# Altium footprint library WR-TBL_Pluggable Connector_5.00mm.PcbLib: 148 footprints (part 4 of 10)
Each footprint in its own frame and in the unit in brackets; x right, y up, seen from the top. Pads: shape width x height; smd on the part's side, far side on the other; paste and mask are expansions set on the pad; w line width, h text height; cw(c..) or ccw(c..) is an arc to the next point about the centre after c.
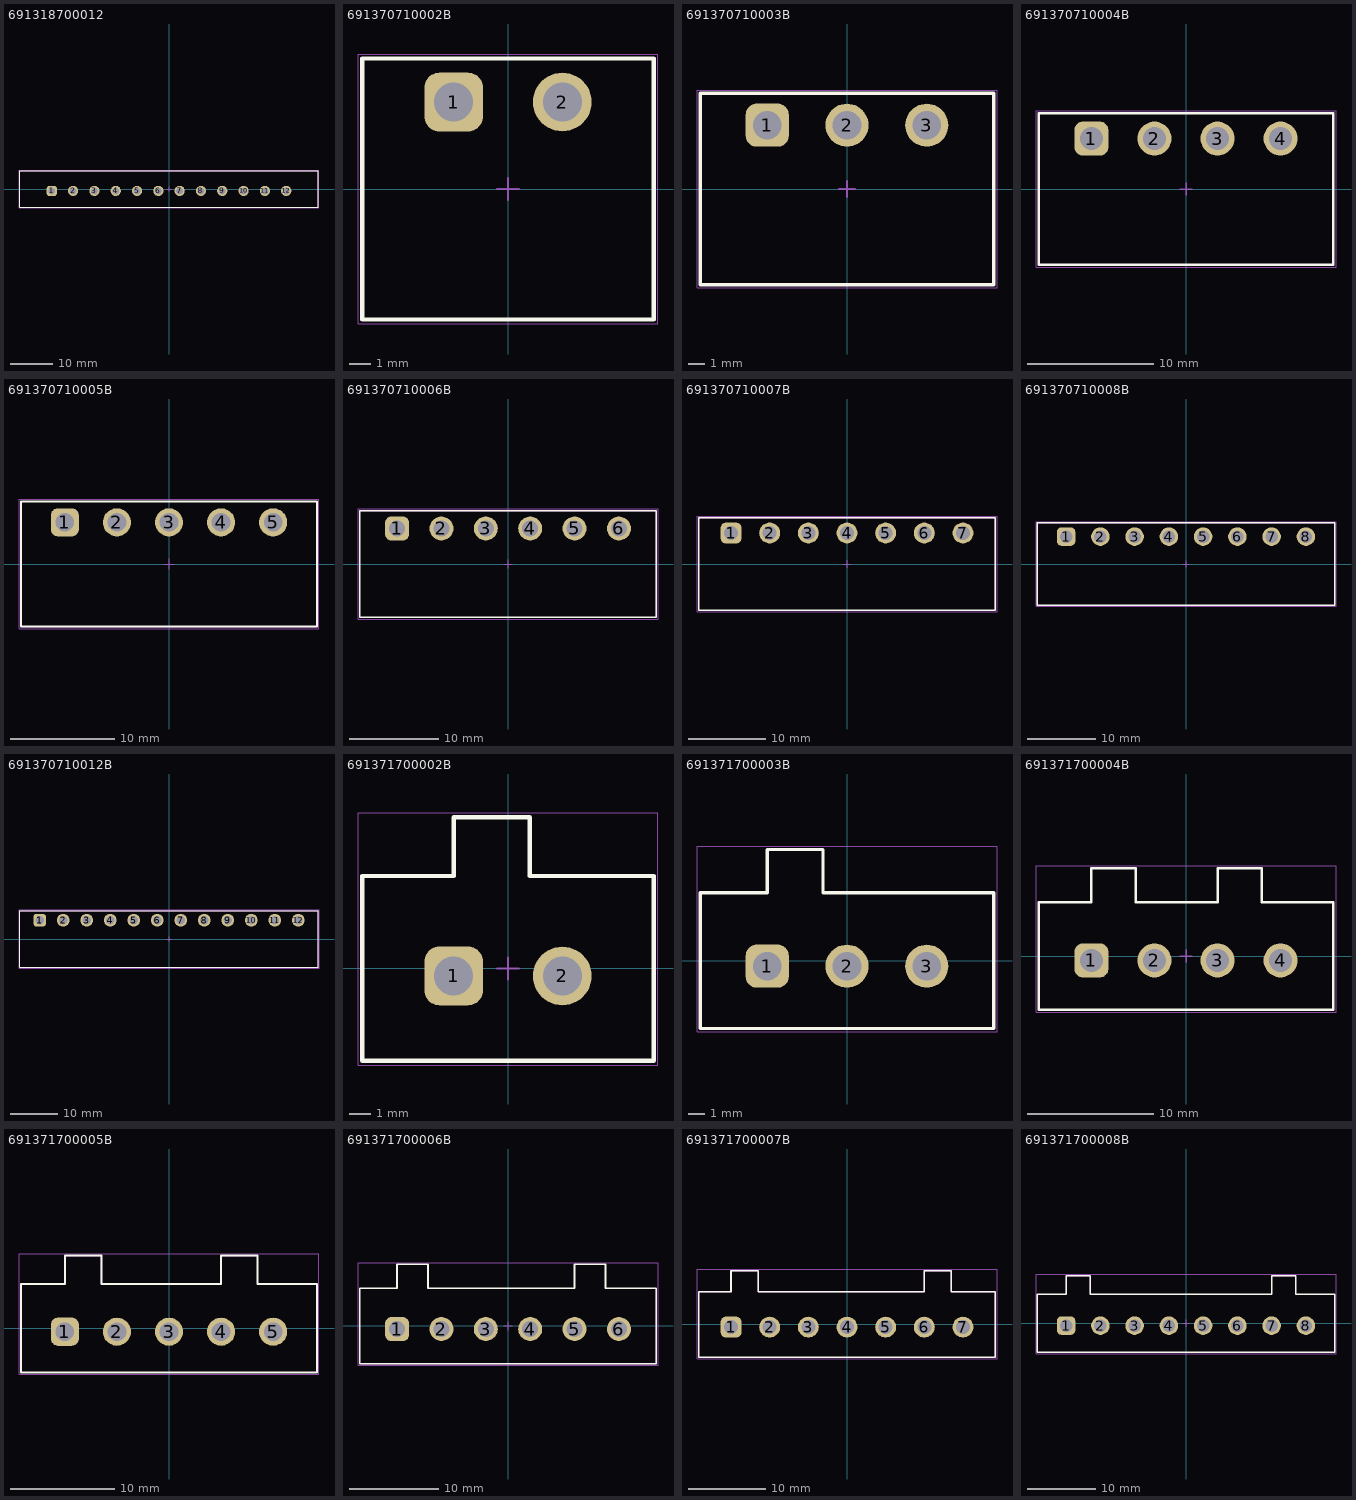
[diagram p3: the footprints below, top view; thin cyan lines are the x and y axes]

## 691318700012 [mm] "5.00mm - Closed Vertical PCB Header with Flanges - 12p"
height 12
pads (12):
  rrect50% 2.4x2.4 hole 1.6: 1(-27.5,-0.45)
  round 2.4 hole 1.6: 2(-22.5,-0.45) 3(-17.5,-0.45) 4(-12.5,-0.45) 5(-7.5,-0.45) 6(-2.5,-0.45) 7(2.5,-0.45) 8(7.5,-0.45) 9(12.5,-0.45) 10(17.5,-0.45) 11(22.5,-0.45) 12(27.5,-0.45)
Top Overlay:
  lines w0.2: -35,-4.25 35,-4.25 35,4.25 -35,4.25 -35,-4.25
Top Assembly:
  lines w0.1: -35,-4.25 -35,4.25 35,4.25 35,-4.25 -35,-4.25
Top Designator:
  text ".Designator" at -3.647,-0.357 h1
Top 3D Body:
  lines w0.1: -35,-4.25 35,-4.25 35,4.25 -35,4.25 -35,-4.25
Top Courtyard:
  lines w0.05: -35.2,-4.45 -35.2,4.45 35.2,4.45 35.2,-4.45 -35.2,-4.45
Top Component Center:
  lines w0.1: -0.5,0 0.5,0 ; 0,-0.5 0,0.5
3D body "691318700012.stp": height 12.1, standoff -3.9, extent -35,-4.25 35,4.25

## 691370710002B [mm] "5,00mm - PCB Horizontal with strong retention force between male and female housing - grey - 02p"
height 11.5
pads (2):
  rrect50% 2.7x2.7 hole 1.8: 1(-2.5,4)
  round 2.7 hole 1.8: 2(2.5,4)
Top Overlay:
  lines w0.2: -6.7,-6 -6.7,6 6.7,6 6.7,-6 -6.7,-6
Top Assembly:
  lines w0.1: -6.7,-6 6.7,-6 6.7,6 -6.7,6 -6.7,-6
Top Designator:
  text ".Designator" at -3.647,-0.357 h1
Top 3D Body:
  lines w0.1: -6.7,-6 -6.7,6 6.7,6 6.7,-6 -6.7,-6
Top Courtyard:
  lines w0.05: -6.9,-6.2 6.9,-6.2 6.9,6.2 -6.9,6.2 -6.9,-6.2
Top Component Center:
  lines w0.1: -0.5,0 0.5,0 ; 0,-0.5 0,0.5
3D body "691370710002B.stp": height 11.63, standoff -3.47, extent -6.7,-6 6.7,6

## 691370710003B [mm] "5,00mm - PCB Horizontal with strong retention force between male and female housing - grey - 03p"
height 11.5
pads (3):
  rrect50% 2.7x2.7 hole 1.8: 1(-5,4)
  round 2.7 hole 1.8: 2(0,4) 3(5,4)
Top Overlay:
  lines w0.2: -9.2,-6 9.2,-6 9.2,6 -9.2,6 -9.2,-6
Top Assembly:
  lines w0.1: -9.2,-6 -9.2,6 9.2,6 9.2,-6 -9.2,-6
Top Designator:
  text ".Designator" at -3.647,-0.357 h1
Top 3D Body:
  lines w0.1: -9.2,-6 9.2,-6 9.2,6 -9.2,6 -9.2,-6
Top Courtyard:
  lines w0.05: -9.4,-6.2 -9.4,6.2 9.4,6.2 9.4,-6.2 -9.4,-6.2
Top Component Center:
  lines w0.1: -0.5,0 0.5,0 ; 0,-0.5 0,0.5
3D body "691370710003B.stp": height 11.63, standoff -3.47, extent -9.2,-6 9.2,6

## 691370710004B [mm] "5,00mm - PCB Horizontal with strong retention force between male and female housing - grey - 04p"
height 11.5
pads (4):
  rrect50% 2.7x2.7 hole 1.8: 1(-7.5,4)
  round 2.7 hole 1.8: 2(-2.5,4) 3(2.5,4) 4(7.5,4)
Top Overlay:
  lines w0.2: -11.7,-6 -11.7,6 11.7,6 11.7,-6 -11.7,-6
Top Assembly:
  lines w0.1: -11.7,-6 11.7,-6 11.7,6 -11.7,6 -11.7,-6
Top Designator:
  text ".Designator" at -3.647,-0.357 h1
Top 3D Body:
  lines w0.1: -11.7,-6 -11.7,6 11.7,6 11.7,-6 -11.7,-6
Top Courtyard:
  lines w0.05: -11.9,-6.2 11.9,-6.2 11.9,6.2 -11.9,6.2 -11.9,-6.2
Top Component Center:
  lines w0.1: -0.5,0 0.5,0 ; 0,-0.5 0,0.5
3D body "691370710004B.stp": height 11.63, standoff -3.47, extent -11.7,-6 11.7,6

## 691370710005B [mm] "5,00mm - PCB Horizontal with strong retention force between male and female housing - grey - 05p"
height 11.5
pads (5):
  rrect50% 2.7x2.7 hole 1.8: 1(-10,4)
  round 2.7 hole 1.8: 2(-5,4) 3(0,4) 4(5,4) 5(10,4)
Top Overlay:
  lines w0.2: -14.2,-6 14.2,-6 14.2,6 -14.2,6 -14.2,-6
Top Assembly:
  lines w0.1: -14.2,-6 -14.2,6 14.2,6 14.2,-6 -14.2,-6
Top Designator:
  text ".Designator" at -3.647,-0.357 h1
Top 3D Body:
  lines w0.1: -14.2,-6 14.2,-6 14.2,6 -14.2,6 -14.2,-6
Top Courtyard:
  lines w0.05: -14.4,-6.2 -14.4,6.2 14.4,6.2 14.4,-6.2 -14.4,-6.2
Top Component Center:
  lines w0.1: -0.5,0 0.5,0 ; 0,-0.5 0,0.5
3D body "691370710005B.stp": height 11.63, standoff -3.47, extent -14.2,-6 14.2,6

## 691370710006B [mm] "5,00mm - PCB Horizontal with strong retention force between male and female housing - grey - 06p"
height 11.5
pads (6):
  rrect50% 2.7x2.7 hole 1.8: 1(-12.5,4)
  round 2.7 hole 1.8: 2(-7.5,4) 3(-2.5,4) 4(2.5,4) 5(7.5,4) 6(12.5,4)
Top Overlay:
  lines w0.2: -16.7,-6 16.7,-6 16.7,6 -16.7,6 -16.7,-6
Top Assembly:
  lines w0.1: -16.7,-6 -16.7,6 16.7,6 16.7,-6 -16.7,-6
Top Designator:
  text ".Designator" at -3.647,-0.357 h1
Top 3D Body:
  lines w0.1: -16.7,-6 16.7,-6 16.7,6 -16.7,6 -16.7,-6
Top Courtyard:
  lines w0.05: -16.9,-6.2 -16.9,6.2 16.9,6.2 16.9,-6.2 -16.9,-6.2
Top Component Center:
  lines w0.1: -0.5,0 0.5,0 ; 0,-0.5 0,0.5
3D body "691370710006B.stp": height 11.63, standoff -3.47, extent -16.7,-6 16.7,6

## 691370710007B [mm] "5,00mm - PCB Horizontal with strong retention force between male and female housing - grey - 07p"
height 11.5
pads (7):
  rrect50% 2.7x2.7 hole 1.8: 1(-15,4)
  round 2.7 hole 1.8: 2(-10,4) 3(-5,4) 4(0,4) 5(5,4) 6(10,4) 7(15,4)
Top Overlay:
  lines w0.2: -19.2,-6 -19.2,6 19.2,6 19.2,-6 -19.2,-6
Top Assembly:
  lines w0.1: -19.2,-6 19.2,-6 19.2,6 -19.2,6 -19.2,-6
Top Designator:
  text ".Designator" at -3.647,-0.357 h1
Top 3D Body:
  lines w0.1: -19.2,-6 -19.2,6 19.2,6 19.2,-6 -19.2,-6
Top Courtyard:
  lines w0.05: -19.4,-6.2 19.4,-6.2 19.4,6.2 -19.4,6.2 -19.4,-6.2
Top Component Center:
  lines w0.1: -0.5,0 0.5,0 ; 0,-0.5 0,0.5
3D body "691370710007B.stp": height 11.63, standoff -3.47, extent -19.2,-6 19.2,6

## 691370710008B [mm] "5,00mm - PCB Horizontal with strong retention force between male and female housing - grey - 08p"
height 11.5
pads (8):
  rrect50% 2.7x2.7 hole 1.8: 1(-17.5,4)
  round 2.7 hole 1.8: 2(-12.5,4) 3(-7.5,4) 4(-2.5,4) 5(2.5,4) 6(7.5,4) 7(12.5,4) 8(17.5,4)
Top Overlay:
  lines w0.2: -21.7,-6 21.7,-6 21.7,6 -21.7,6 -21.7,-6
Top Assembly:
  lines w0.1: -21.7,-6 -21.7,6 21.7,6 21.7,-6 -21.7,-6
Top Designator:
  text ".Designator" at -3.647,-0.357 h1
Top 3D Body:
  lines w0.1: -21.7,-6 21.7,-6 21.7,6 -21.7,6 -21.7,-6
Top Courtyard:
  lines w0.05: -21.9,-6.2 -21.9,6.2 21.9,6.2 21.9,-6.2 -21.9,-6.2
Top Component Center:
  lines w0.1: -0.5,0 0.5,0 ; 0,-0.5 0,0.5
3D body "691370710008B.stp": height 11.63, standoff -3.47, extent -21.7,-6 21.7,6

## 691370710012B [mm] "5,00mm - PCB Horizontal with strong retention force between male and female housing - grey - 12p"
height 11.5
pads (12):
  rrect50% 2.7x2.7 hole 1.8: 1(-27.5,4)
  round 2.7 hole 1.8: 2(-22.5,4) 3(-17.5,4) 4(-12.5,4) 5(-7.5,4) 6(-2.5,4) 7(2.5,4) 8(7.5,4) 9(12.5,4) 10(17.5,4) 11(22.5,4) 12(27.5,4)
Top Overlay:
  lines w0.2: -31.7,-6 -31.7,6 31.7,6 31.7,-6 -31.7,-6
Top Assembly:
  lines w0.1: -31.7,-6 31.7,-6 31.7,6 -31.7,6 -31.7,-6
Top Designator:
  text ".Designator" at -3.647,-0.357 h1
Top 3D Body:
  lines w0.1: -31.7,-6 -31.7,6 31.7,6 31.7,-6 -31.7,-6
Top Courtyard:
  lines w0.05: -31.9,-6.2 31.9,-6.2 31.9,6.2 -31.9,6.2 -31.9,-6.2
Top Component Center:
  lines w0.1: -0.5,0 0.5,0 ; 0,-0.5 0,0.5
3D body "691370710012B.stp": height 11.63, standoff -3.47, extent -31.7,-6 31.7,6

## 691371700002B [mm] "5,00mm - PCB Vertical with strong retention force between male and female housing - grey - 02p"
height 12
pads (2):
  rrect50% 2.7x2.7 hole 1.8: 1(-2.5,-0.35)
  round 2.7 hole 1.8: 2(2.5,-0.35)
Top Overlay:
  lines w0.2: -6.7,-4.25 6.7,-4.25 6.7,4.25 1,4.25 1,6.95 -2.5,6.95 -2.5,4.25 -6.7,4.25 -6.7,-4.25
Top Assembly:
  lines w0.1: -6.7,-4.25 -6.7,4.25 -2.5,4.25 -2.5,6.95 1,6.95 1,4.25 6.7,4.25 6.7,-4.25 -6.7,-4.25
Top Designator:
  text ".Designator" at -3.647,-0.357 h1
Top 3D Body:
  lines w0.1: -6.7,-4.25 6.7,-4.25 6.7,4.25 1,4.25 1,6.95 -2.5,6.95 -2.5,4.25 -6.7,4.25 -6.7,-4.25
Top Courtyard:
  lines w0.05: -6.9,-4.45 -6.9,7.15 6.9,7.15 6.9,-4.45 -6.9,-4.45
Top Component Center:
  lines w0.1: -0.5,0 0.5,0 ; 0,-0.5 0,0.5
3D body "691371700002B.stp": height 12.1, standoff -3.8, extent -6.7,-4.25 6.7,6.95

## 691371700003B [mm] "5,00mm - PCB Vertical with strong retention force between male and female housing - grey - 03p"
height 12
pads (3):
  rrect50% 2.7x2.7 hole 1.8: 1(-5,-0.35)
  round 2.7 hole 1.8: 2(0,-0.35) 3(5,-0.35)
Top Overlay:
  lines w0.2: -9.2,-4.25 9.2,-4.25 9.2,4.25 -1.5,4.25 -1.5,6.95 -5,6.95 -5,4.25 -9.2,4.25 -9.2,-4.25
Top Assembly:
  lines w0.1: -9.2,-4.25 -9.2,4.25 -5,4.25 -5,6.95 -1.5,6.95 -1.5,4.25 9.2,4.25 9.2,-4.25 -9.2,-4.25
Top Designator:
  text ".Designator" at -3.647,-0.357 h1
Top 3D Body:
  lines w0.1: -9.2,-4.25 9.2,-4.25 9.2,4.25 -1.5,4.25 -1.5,6.95 -5,6.95 -5,4.25 -9.2,4.25 -9.2,-4.25
Top Courtyard:
  lines w0.05: -9.4,-4.45 -9.4,7.15 9.4,7.15 9.4,-4.45 -9.4,-4.45
Top Component Center:
  lines w0.1: -0.5,0 0.5,0 ; 0,-0.5 0,0.5
3D body "691371700003B.stp": height 12.1, standoff -3.8, extent -9.2,-4.25 9.2,6.95

## 691371700004B [mm] "5,00mm - PCB Vertical with strong retention force between male and female housing - grey - 04p"
height 12
pads (4):
  rrect50% 2.7x2.7 hole 1.8: 1(-7.5,-0.35)
  round 2.7 hole 1.8: 2(-2.5,-0.35) 3(2.5,-0.35) 4(7.5,-0.35)
Top Overlay:
  lines w0.2: -11.7,-4.25 -11.7,4.25 -7.5,4.25 -7.5,6.95 -4,6.95 -4,4.25 2.5,4.25 2.5,6.95 6,6.95 6,4.25 11.7,4.25 11.7,-4.25 -11.7,-4.25
Top Assembly:
  lines w0.1: -11.7,-4.25 11.7,-4.25 11.7,4.25 6,4.25 6,6.95 2.5,6.95 2.5,4.25 -4,4.25 -4,6.95 -7.5,6.95 -7.5,4.25 -11.7,4.25 -11.7,-4.25
Top Designator:
  text ".Designator" at -3.647,-0.357 h1
Top 3D Body:
  lines w0.1: -11.7,-4.25 -11.7,4.25 -7.5,4.25 -7.5,6.95 -4,6.95 -4,4.25 2.5,4.25 2.5,6.95 6,6.95 6,4.25 11.7,4.25 11.7,-4.25 -11.7,-4.25
Top Courtyard:
  lines w0.05: -11.9,-4.45 11.9,-4.45 11.9,7.15 -11.9,7.15 -11.9,-4.45
Top Component Center:
  lines w0.1: -0.5,0 0.5,0 ; 0,-0.5 0,0.5
3D body "691371700004B.stp": height 12.1, standoff -3.8, extent -11.7,-4.25 11.7,6.95

## 691371700005B [mm] "5,00mm - PCB Vertical with strong retention force between male and female housing - grey - 05p"
height 12
pads (5):
  rrect50% 2.7x2.7 hole 1.8: 1(-10,-0.35)
  round 2.7 hole 1.8: 2(-5,-0.35) 3(0,-0.35) 4(5,-0.35) 5(10,-0.35)
Top Overlay:
  lines w0.2: -14.2,-4.25 -14.2,4.25 -10,4.25 -10,6.95 -6.5,6.95 -6.5,4.25 5,4.25 5,6.95 8.5,6.95 8.5,4.25 14.2,4.25 14.2,-4.25 -14.2,-4.25
Top Assembly:
  lines w0.1: -14.2,-4.25 14.2,-4.25 14.2,4.25 8.5,4.25 8.5,6.95 5,6.95 5,4.25 -6.5,4.25 -6.5,6.95 -10,6.95 -10,4.25 -14.2,4.25 -14.2,-4.25
Top Designator:
  text ".Designator" at -3.647,-0.357 h1
Top 3D Body:
  lines w0.1: -14.2,-4.25 -14.2,4.25 -10,4.25 -10,6.95 -6.5,6.95 -6.5,4.25 5,4.25 5,6.95 8.5,6.95 8.5,4.25 14.2,4.25 14.2,-4.25 -14.2,-4.25
Top Courtyard:
  lines w0.05: -14.4,-4.45 14.4,-4.45 14.4,7.15 -14.4,7.15 -14.4,-4.45
Top Component Center:
  lines w0.1: -0.5,0 0.5,0 ; 0,-0.5 0,0.5
3D body "691371700005B.stp": height 12.1, standoff -3.8, extent -14.2,-4.25 14.2,6.95

## 691371700006B [mm] "5,00mm - PCB Vertical with strong retention force between male and female housing - grey - 06p"
height 12
pads (6):
  rrect50% 2.7x2.7 hole 1.8: 1(-12.5,-0.35)
  round 2.7 hole 1.8: 2(-7.5,-0.35) 3(-2.5,-0.35) 4(2.5,-0.35) 5(7.5,-0.35) 6(12.5,-0.35)
Top Overlay:
  lines w0.2: -16.7,-4.25 -16.7,4.25 -12.5,4.25 -12.5,6.95 -9,6.95 -9,4.25 7.5,4.25 7.5,6.95 11,6.95 11,4.25 16.7,4.25 16.7,-4.25 -16.7,-4.25
Top Assembly:
  lines w0.1: -16.7,-4.25 16.7,-4.25 16.7,4.25 11,4.25 11,6.95 7.5,6.95 7.5,4.25 -9,4.25 -9,6.95 -12.5,6.95 -12.5,4.25 -16.7,4.25 -16.7,-4.25
Top Designator:
  text ".Designator" at -3.647,-0.357 h1
Top 3D Body:
  lines w0.1: -16.7,-4.25 -16.7,4.25 -12.5,4.25 -12.5,6.95 -9,6.95 -9,4.25 7.5,4.25 7.5,6.95 11,6.95 11,4.25 16.7,4.25 16.7,-4.25 -16.7,-4.25
Top Courtyard:
  lines w0.05: -16.9,-4.45 16.9,-4.45 16.9,7.15 -16.9,7.15 -16.9,-4.45
Top Component Center:
  lines w0.1: -0.5,0 0.5,0 ; 0,-0.5 0,0.5
3D body "691371700006B.stp": height 12.1, standoff -3.8, extent -16.7,-4.25 16.7,6.95

## 691371700007B [mm] "5,00mm - PCB Vertical with strong retention force between male and female housing - grey - 07p"
height 12
pads (7):
  rrect50% 2.7x2.7 hole 1.8: 1(-15,-0.35)
  round 2.7 hole 1.8: 2(-10,-0.35) 3(-5,-0.35) 4(0,-0.35) 5(5,-0.35) 6(10,-0.35) 7(15,-0.35)
Top Overlay:
  lines w0.2: -19.2,-4.25 19.2,-4.25 19.2,4.25 13.5,4.25 13.5,6.95 10,6.95 10,4.25 -11.5,4.25 -11.5,6.95 -15,6.95 -15,4.25 -19.2,4.25 -19.2,-4.25
Top Assembly:
  lines w0.1: -19.2,-4.25 -19.2,4.25 -15,4.25 -15,6.95 -11.5,6.95 -11.5,4.25 10,4.25 10,6.95 13.5,6.95 13.5,4.25 19.2,4.25 19.2,-4.25 -19.2,-4.25
Top Designator:
  text ".Designator" at -3.647,-0.357 h1
Top 3D Body:
  lines w0.1: -19.2,-4.25 19.2,-4.25 19.2,4.25 13.5,4.25 13.5,6.95 10,6.95 10,4.25 -11.5,4.25 -11.5,6.95 -15,6.95 -15,4.25 -19.2,4.25 -19.2,-4.25
Top Courtyard:
  lines w0.05: -19.4,-4.45 -19.4,7.15 19.4,7.15 19.4,-4.45 -19.4,-4.45
Top Component Center:
  lines w0.1: -0.5,0 0.5,0 ; 0,-0.5 0,0.5
3D body "691371700007B.stp": height 12.1, standoff -3.8, extent -19.2,-4.25 19.2,6.95

## 691371700008B [mm] "5,00mm - PCB Vertical with strong retention force between male and female housing - grey - 08p"
height 12
pads (8):
  rrect50% 2.7x2.7 hole 1.8: 1(-17.5,-0.35)
  round 2.7 hole 1.8: 2(-12.5,-0.35) 3(-7.5,-0.35) 4(-2.5,-0.35) 5(2.5,-0.35) 6(7.5,-0.35) 7(12.5,-0.35) 8(17.5,-0.35)
Top Overlay:
  lines w0.2: -21.7,-4.25 -21.7,4.25 -17.5,4.25 -17.5,6.95 -14,6.95 -14,4.25 12.5,4.25 12.5,6.95 16,6.95 16,4.25 21.7,4.25 21.7,-4.25 -21.7,-4.25
Top Assembly:
  lines w0.1: -21.7,-4.25 21.7,-4.25 21.7,4.25 16,4.25 16,6.95 12.5,6.95 12.5,4.25 -14,4.25 -14,6.95 -17.5,6.95 -17.5,4.25 -21.7,4.25 -21.7,-4.25
Top Designator:
  text ".Designator" at -3.647,-0.357 h1
Top 3D Body:
  lines w0.1: -21.7,-4.25 -21.7,4.25 -17.5,4.25 -17.5,6.95 -14,6.95 -14,4.25 12.5,4.25 12.5,6.95 16,6.95 16,4.25 21.7,4.25 21.7,-4.25 -21.7,-4.25
Top Courtyard:
  lines w0.05: -21.9,-4.45 21.9,-4.45 21.9,7.15 -21.9,7.15 -21.9,-4.45
Top Component Center:
  lines w0.1: -0.5,0 0.5,0 ; 0,-0.5 0,0.5
3D body "691371700008B.stp": height 12.1, standoff -3.8, extent -21.7,-4.25 21.7,6.95